# Altium footprint library Crystals-oscillators.PcbLib: 17 footprints (part 2 of 2)
Each footprint in its own frame and in the unit in brackets; x right, y up, seen from the top. Pads: shape width x height; smd on the part's side, far side on the other; paste and mask are expansions set on the pad; w line width, h text height; cw(c..) or ccw(c..) is an arc to the next point about the centre after c.
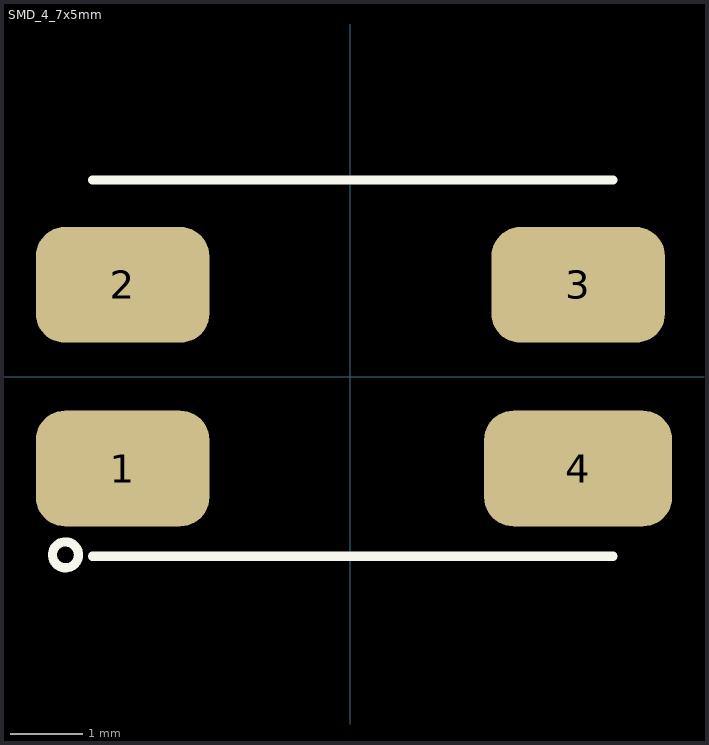
[diagram p1: the footprint, top view; thin cyan lines are the x and y axes]

## SMD_4_7x5mm [mm] "/ 20190222 / C-A.Serna.A"
pads (4):
  rrect50% 2.4x1.6 smd: 1(-3.15,-1.27) 2(-3.15,1.27) 3(3.15,1.27)
  rrect50% 2.6x1.6 smd: 4(3.15,-1.27)
Top Overlay:
  circle w0.127: c-3.94,-2.464 r0.18
  lines w0.127: -3.568,-2.482 3.632,-2.482 ; -3.568,2.718 3.632,2.718
3D body: height 1.3, standoff 0, extent -3.556,-2.464 3.632,2.718